# Altium schematic symbol library Resistor_1.Schlib: 1 symbol
Pins are listed as number, name and electrical type; pins without a type are passive.

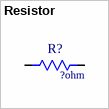
[diagram p0: symbol Resistor]

## Resistor
designator R?  Resistance: ?ohm
footprint Resistor_1W
footprint RESISTOR_0402
footprint 1206 Resistor
footprint 0805 Resistor (Chip Resistor, 2-Leads, Body 2.00x1.25mm, IPC Medium Density)
footprint RESISTOR_CSRN2512 (Chip Resistor, 2-Leads, Body 6.35x3.15mm, IPC Medium Density)
footprint Resistor2010
pins: 1, 2